# Altium footprint library KFHB9500.PcbLib: 11 footprints
Each footprint in its own frame and in the unit in brackets; x right, y up, seen from the top. Pads: shape width x height; smd on the part's side, far side on the other; paste and mask are expansions set on the pad; w line width, h text height; cw(c..) or ccw(c..) is an arc to the next point about the centre after c.
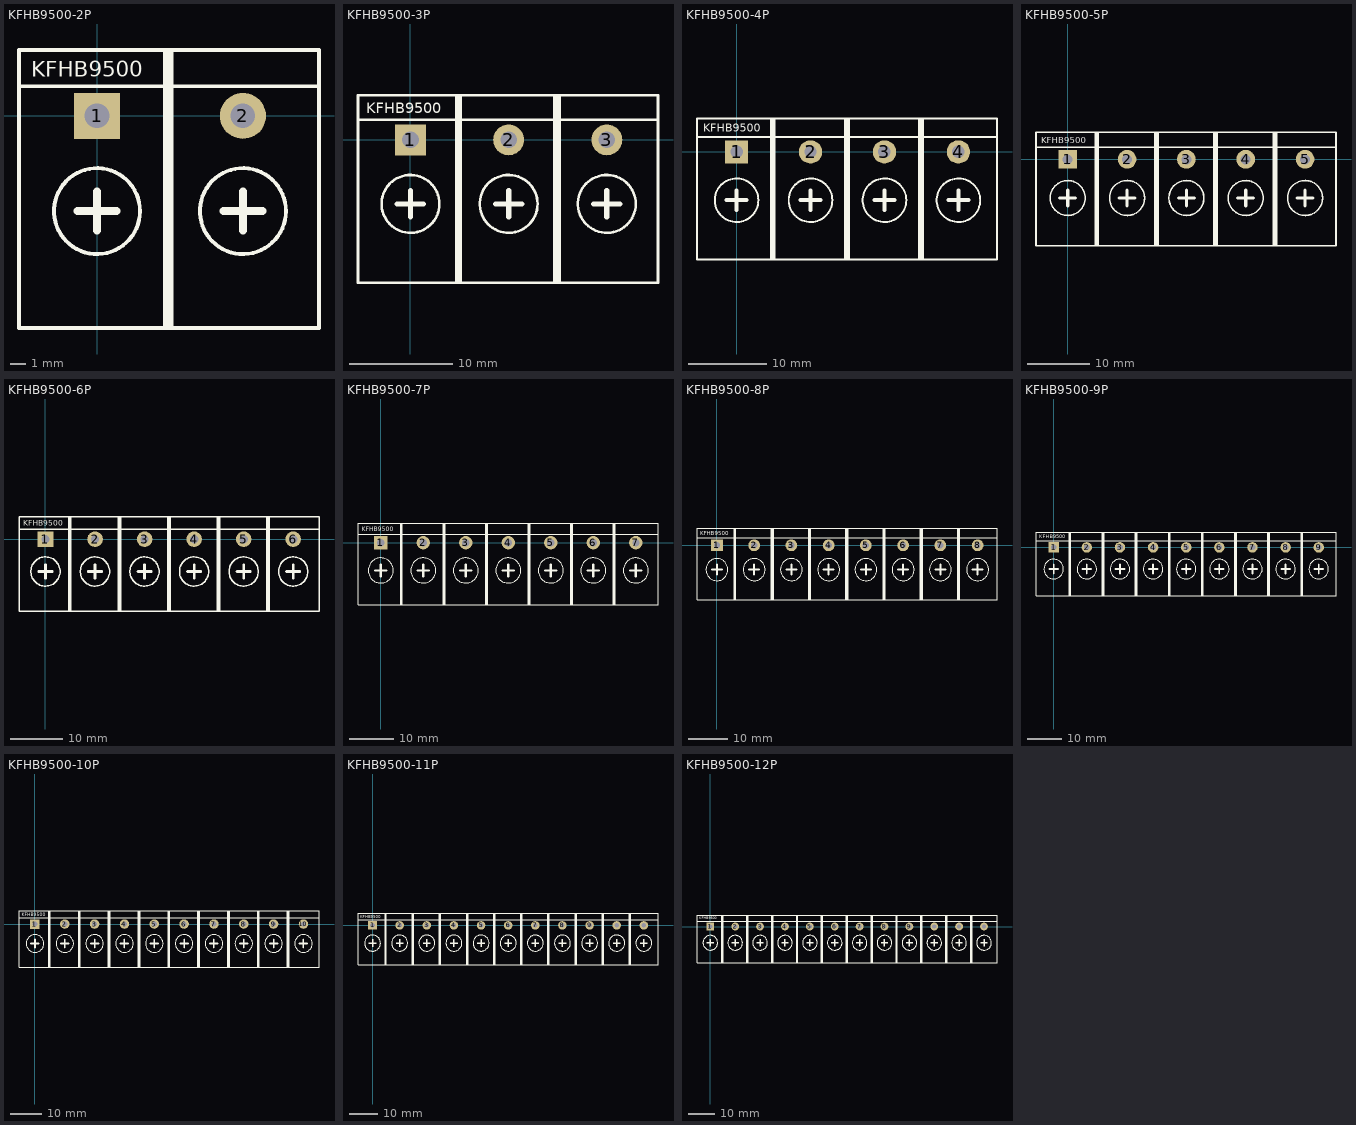
[diagram p0: the footprints below, top view; thin cyan lines are the x and y axes]

## KFHB9500-2P [mm]
pads (2):
  rect 3x3 hole 1.6: 1(0,0)
  round 3 hole 1.6: 2(9.5,0)
Top Overlay:
  circle w0.254: c9.5,-6.2 r2.8
  circle w0.254: c0,-6.2 r2.8
  lines w0.254: -5.08,1.928 4.826,1.928 ; 4.42,1.928 14.326,1.928 ; 4.674,-13.82 4.674,4.3 ; -5.08,-13.82 4.853,-13.82 4.853,4.3 -5.08,4.3 -5.08,-13.82 ; 4.42,-13.82 14.453,-13.82 14.453,4.3 4.42,4.3 4.42,-13.82
  lines w0.508: -1.27,-6.2 1.27,-6.2 ; 0,-7.47 0,-4.93 ; 8.23,-6.2 10.77,-6.2 ; 9.5,-7.47 9.5,-4.93
  text "KFHB9500" at -4.267,2.563 h1.02
3D body "KFHB9500.STEP": height 14.05, standoff -3.25, extent -5.207,-13.699 4.793,4.301
3D body "KFHB9500.STEP": height 14.05, standoff -3.25, extent 4.293,-13.699 14.293,4.301

## KFHB9500-3P [mm]
pads (3):
  rect 3x3 hole 1.6: 1(0,0)
  round 3 hole 1.6: 2(9.5,0) 3(19,0)
Top Overlay:
  circle w0.254: c0,-6.2 r2.8
  circle w0.254: c9.5,-6.2 r2.8
  circle w0.254: c19,-6.2 r2.8
  lines w0.254: -5.08,1.928 4.826,1.928 ; 4.42,1.928 14.326,1.928 ; 4.674,-13.82 4.674,4.3 ; 13.92,1.928 23.826,1.928 ; 14.174,-13.82 14.174,4.3 ; 14.353,-13.82 14.353,4.3 ; -5.08,-13.82 -5.08,4.3 4.853,4.3 4.853,-13.82 -5.08,-13.82 ; 4.42,-13.82 4.42,4.3 14.453,4.3 14.453,-13.82 4.42,-13.82 ; 13.92,-13.82 23.953,-13.82 23.953,4.3 13.92,4.3 13.92,-13.82
  lines w0.508: -1.27,-6.2 1.27,-6.2 ; 0,-7.47 0,-4.93 ; 8.23,-6.2 10.77,-6.2 ; 9.5,-7.47 9.5,-4.93 ; 17.73,-6.2 20.27,-6.2 ; 19,-7.47 19,-4.93
  text "KFHB9500" at -4.267,2.563 h1.02
3D body "KFHB9500.STEP": height 14.05, standoff -3.25, extent 13.793,-13.699 23.793,4.301
3D body "KFHB9500.STEP": height 14.05, standoff -3.25, extent -5.207,-13.699 4.793,4.301
3D body "KFHB9500.STEP": height 14.05, standoff -3.25, extent 4.293,-13.699 14.293,4.301

## KFHB9500-4P [mm]
pads (4):
  rect 3x3 hole 1.6: 1(0,0)
  round 3 hole 1.6: 2(9.5,0) 3(19,0) 4(28.5,0)
Top Overlay:
  circle w0.254: c28.5,-6.2 r2.8
  circle w0.254: c0,-6.2 r2.8
  circle w0.254: c9.5,-6.2 r2.8
  circle w0.254: c19,-6.2 r2.8
  lines w0.254: -5.08,1.928 4.826,1.928 ; 4.42,1.928 14.326,1.928 ; 4.674,-13.82 4.674,4.3 ; 13.92,1.928 23.826,1.928 ; 14.174,-13.82 14.174,4.3 ; 14.353,-13.82 14.353,4.3 ; 23.42,1.928 33.326,1.928 ; 23.674,-13.82 23.674,4.3 ; 23.853,-13.82 23.853,4.3 ; 23.953,-13.82 23.953,4.3 ; 23.953,-13.82 23.953,4.3 ; 23.953,-13.82 13.92,-13.82 13.92,4.3 23.953,4.3 ; -5.08,-13.82 -5.08,4.3 4.853,4.3 4.853,-13.82 -5.08,-13.82 ; 4.42,-13.82 4.42,4.3 14.453,4.3 14.453,-13.82 4.42,-13.82 ; 23.42,-13.82 23.42,4.3 33.453,4.3 33.453,-13.82 23.42,-13.82
  lines w0.508: -1.27,-6.2 1.27,-6.2 ; 0,-7.47 0,-4.93 ; 8.23,-6.2 10.77,-6.2 ; 9.5,-7.47 9.5,-4.93 ; 17.73,-6.2 20.27,-6.2 ; 19,-7.47 19,-4.93 ; 27.23,-6.2 29.77,-6.2 ; 28.5,-7.47 28.5,-4.93
  text "KFHB9500" at -4.267,2.563 h1.02
3D body "KFHB9500.STEP": height 14.05, standoff -3.25, extent 13.793,-13.699 23.793,4.301
3D body "KFHB9500.STEP": height 14.05, standoff -3.25, extent -5.207,-13.699 4.793,4.301
3D body "KFHB9500.STEP": height 14.05, standoff -3.25, extent 4.293,-13.699 14.293,4.301
3D body "KFHB9500.STEP": height 14.05, standoff -3.25, extent 23.293,-13.699 33.293,4.301

## KFHB9500-5P [mm]
pads (5):
  rect 3x3 hole 1.6: 1(0,0)
  round 3 hole 1.6: 2(9.5,0) 3(19,0) 4(28.5,0) 5(38,0)
Top Overlay:
  circle w0.254: c38,-6.2 r2.8
  circle w0.254: c28.5,-6.2 r2.8
  circle w0.254: c0,-6.2 r2.8
  circle w0.254: c9.5,-6.2 r2.8
  circle w0.254: c19,-6.2 r2.8
  lines w0.254: -5.08,1.928 4.826,1.928 ; 4.42,1.928 14.326,1.928 ; 4.674,-13.82 4.674,4.3 ; 13.92,1.928 23.826,1.928 ; 14.174,-13.82 14.174,4.3 ; 14.353,-13.82 14.353,4.3 ; 23.42,1.928 33.326,1.928 ; 23.674,-13.82 23.674,4.3 ; 23.853,-13.82 23.853,4.3 ; 32.92,1.928 42.826,1.928 ; 33.174,-13.82 33.174,4.3 ; 33.353,-13.82 33.353,4.3 ; 23.953,-13.82 23.953,4.3 ; 23.953,-13.82 23.953,4.3 ; 23.953,-13.82 13.92,-13.82 13.92,4.3 23.953,4.3 ; 33.453,-13.82 33.453,4.3 ; 33.453,-13.82 33.453,4.3 ; 33.453,-13.82 23.42,-13.82 23.42,4.3 33.453,4.3 ; 33.453,-13.82 33.453,4.3 ; -5.08,-13.82 -5.08,4.3 4.853,4.3 4.853,-13.82 -5.08,-13.82 ; 4.42,-13.82 4.42,4.3 14.453,4.3 14.453,-13.82 4.42,-13.82 ; 32.92,-13.82 42.953,-13.82 42.953,4.3 32.92,4.3 32.92,-13.82
  lines w0.508: -1.27,-6.2 1.27,-6.2 ; 0,-7.47 0,-4.93 ; 8.23,-6.2 10.77,-6.2 ; 9.5,-7.47 9.5,-4.93 ; 17.73,-6.2 20.27,-6.2 ; 19,-7.47 19,-4.93 ; 27.23,-6.2 29.77,-6.2 ; 28.5,-7.47 28.5,-4.93 ; 36.73,-6.2 39.27,-6.2 ; 38,-7.47 38,-4.93
  text "KFHB9500" at -4.267,2.563 h1.02
3D body "KFHB9500.STEP": height 14.05, standoff -3.25, extent 13.793,-13.699 23.793,4.301
3D body "KFHB9500.STEP": height 14.05, standoff -3.25, extent -5.207,-13.699 4.793,4.301
3D body "KFHB9500.STEP": height 14.05, standoff -3.25, extent 4.293,-13.699 14.293,4.301
3D body "KFHB9500.STEP": height 14.05, standoff -3.25, extent 23.293,-13.699 33.293,4.301
3D body "KFHB9500.STEP": height 14.05, standoff -3.25, extent 32.793,-13.699 42.793,4.301

## KFHB9500-6P [mm]
pads (6):
  rect 3x3 hole 1.6: 1(0,0)
  round 3 hole 1.6: 2(9.5,0) 3(19,0) 4(28.5,0) 5(38,0) 6(47.5,0)
Top Overlay:
  circle w0.254: c38,-6.2 r2.8
  circle w0.254: c28.5,-6.2 r2.8
  circle w0.254: c0,-6.2 r2.8
  circle w0.254: c9.5,-6.2 r2.8
  circle w0.254: c19,-6.2 r2.8
  circle w0.254: c47.5,-6.2 r2.8
  lines w0.254: -5.08,1.928 4.826,1.928 ; 4.42,1.928 14.326,1.928 ; 4.674,-13.82 4.674,4.3 ; 13.92,1.928 23.826,1.928 ; 14.174,-13.82 14.174,4.3 ; 14.353,-13.82 14.353,4.3 ; 23.42,1.928 33.326,1.928 ; 23.674,-13.82 23.674,4.3 ; 23.853,-13.82 23.853,4.3 ; 32.92,1.928 42.826,1.928 ; 33.174,-13.82 33.174,4.3 ; 33.353,-13.82 33.353,4.3 ; 42.42,1.928 52.326,1.928 ; 42.674,-13.82 42.674,4.3 ; 42.853,-13.82 42.853,4.3 ; 23.953,-13.82 23.953,4.3 ; 23.953,-13.82 23.953,4.3 ; 23.953,-13.82 13.92,-13.82 13.92,4.3 23.953,4.3 ; 33.453,-13.82 33.453,4.3 ; 33.453,-13.82 33.453,4.3 ; 33.453,-13.82 23.42,-13.82 23.42,4.3 33.453,4.3 ; 33.453,-13.82 33.453,4.3 ; 42.953,-13.82 42.953,4.3 ; 42.953,-13.82 32.92,-13.82 32.92,4.3 42.953,4.3 ; 42.953,-13.82 42.953,4.3 ; 42.953,-13.82 42.953,4.3 ; 42.953,-13.82 42.953,4.3 ; -5.08,-13.82 -5.08,4.3 4.853,4.3 4.853,-13.82 -5.08,-13.82 ; 4.42,-13.82 4.42,4.3 14.453,4.3 14.453,-13.82 4.42,-13.82 ; 42.42,-13.82 42.42,4.3 52.453,4.3 52.453,-13.82 42.42,-13.82
  lines w0.508: -1.27,-6.2 1.27,-6.2 ; 0,-7.47 0,-4.93 ; 8.23,-6.2 10.77,-6.2 ; 9.5,-7.47 9.5,-4.93 ; 17.73,-6.2 20.27,-6.2 ; 19,-7.47 19,-4.93 ; 27.23,-6.2 29.77,-6.2 ; 28.5,-7.47 28.5,-4.93 ; 36.73,-6.2 39.27,-6.2 ; 38,-7.47 38,-4.93 ; 46.23,-6.2 48.77,-6.2 ; 47.5,-7.47 47.5,-4.93
  text "KFHB9500" at -4.267,2.563 h1.02
3D body "KFHB9500.STEP": height 14.05, standoff -3.25, extent 32.793,-13.699 42.793,4.301
3D body "KFHB9500.STEP": height 14.05, standoff -3.25, extent 23.293,-13.699 33.293,4.301
3D body "KFHB9500.STEP": height 14.05, standoff -3.25, extent 42.293,-13.699 52.293,4.301
3D body "KFHB9500.STEP": height 14.05, standoff -3.25, extent 4.293,-13.699 14.293,4.301
3D body "KFHB9500.STEP": height 14.05, standoff -3.25, extent -5.207,-13.699 4.793,4.301
3D body "KFHB9500.STEP": height 14.05, standoff -3.25, extent 13.793,-13.699 23.793,4.301

## KFHB9500-7P [mm]
pads (7):
  rect 3x3 hole 1.6: 1(0,0)
  round 3 hole 1.6: 2(9.5,0) 3(19,0) 4(28.5,0) 5(38,0) 6(47.5,0) 7(57,0)
Top Overlay:
  circle w0.254: c57,-6.2 r2.8
  circle w0.254: c38,-6.2 r2.8
  circle w0.254: c28.5,-6.2 r2.8
  circle w0.254: c0,-6.2 r2.8
  circle w0.254: c9.5,-6.2 r2.8
  circle w0.254: c19,-6.2 r2.8
  circle w0.254: c47.5,-6.2 r2.8
  lines w0.254: -5.08,1.928 4.826,1.928 ; 4.42,1.928 14.326,1.928 ; 4.674,-13.82 4.674,4.3 ; 13.92,1.928 23.826,1.928 ; 14.174,-13.82 14.174,4.3 ; 14.353,-13.82 14.353,4.3 ; 23.42,1.928 33.326,1.928 ; 23.674,-13.82 23.674,4.3 ; 23.853,-13.82 23.853,4.3 ; 32.92,1.928 42.826,1.928 ; 33.174,-13.82 33.174,4.3 ; 33.353,-13.82 33.353,4.3 ; 42.42,1.928 52.326,1.928 ; 42.674,-13.82 42.674,4.3 ; 42.853,-13.82 42.853,4.3 ; 51.92,1.928 61.826,1.928 ; 52.174,-13.82 52.174,4.3 ; 52.353,-13.82 52.353,4.3 ; 23.953,-13.82 23.953,4.3 ; 23.953,-13.82 23.953,4.3 ; 23.953,-13.82 13.92,-13.82 13.92,4.3 23.953,4.3 ; 33.453,-13.82 33.453,4.3 ; 33.453,-13.82 33.453,4.3 ; 33.453,-13.82 23.42,-13.82 23.42,4.3 33.453,4.3 ; 33.453,-13.82 33.453,4.3 ; 42.953,-13.82 42.953,4.3 ; 42.953,-13.82 32.92,-13.82 32.92,4.3 42.953,4.3 ; 42.953,-13.82 42.953,4.3 ; 42.953,-13.82 42.953,4.3 ; 42.953,-13.82 42.953,4.3 ; 52.453,-13.82 52.453,4.3 ; 52.453,-13.82 52.453,4.3 ; 52.453,-13.82 52.453,4.3 ; 52.453,-13.82 52.453,4.3 ; 52.453,-13.82 42.42,-13.82 42.42,4.3 52.453,4.3 ; 52.453,-13.82 52.453,4.3 ; -5.08,-13.82 -5.08,4.3 4.853,4.3 4.853,-13.82 -5.08,-13.82 ; 4.42,-13.82 4.42,4.3 14.453,4.3 14.453,-13.82 4.42,-13.82 ; 51.92,-13.82 61.953,-13.82 61.953,4.3 51.92,4.3 51.92,-13.82
  lines w0.508: -1.27,-6.2 1.27,-6.2 ; 0,-7.47 0,-4.93 ; 8.23,-6.2 10.77,-6.2 ; 9.5,-7.47 9.5,-4.93 ; 17.73,-6.2 20.27,-6.2 ; 19,-7.47 19,-4.93 ; 27.23,-6.2 29.77,-6.2 ; 28.5,-7.47 28.5,-4.93 ; 36.73,-6.2 39.27,-6.2 ; 38,-7.47 38,-4.93 ; 46.23,-6.2 48.77,-6.2 ; 47.5,-7.47 47.5,-4.93 ; 55.73,-6.2 58.27,-6.2 ; 57,-7.47 57,-4.93
  text "KFHB9500" at -4.267,2.563 h1.02
3D body "KFHB9500.STEP": height 14.05, standoff -3.25, extent 13.793,-13.699 23.793,4.301
3D body "KFHB9500.STEP": height 14.05, standoff -3.25, extent -5.207,-13.699 4.793,4.301
3D body "KFHB9500.STEP": height 14.05, standoff -3.25, extent 4.293,-13.699 14.293,4.301
3D body "KFHB9500.STEP": height 14.05, standoff -3.25, extent 42.293,-13.699 52.293,4.301
3D body "KFHB9500.STEP": height 14.05, standoff -3.25, extent 23.293,-13.699 33.293,4.301
3D body "KFHB9500.STEP": height 14.05, standoff -3.25, extent 32.793,-13.699 42.793,4.301
3D body "KFHB9500.STEP": height 14.05, standoff -3.25, extent 51.793,-13.699 61.793,4.301

## KFHB9500-8P [mm]
pads (8):
  rect 3x3 hole 1.6: 1(0,0)
  round 3 hole 1.6: 2(9.5,0) 3(19,0) 4(28.5,0) 5(38,0) 6(47.5,0) 7(57,0) 8(66.5,0)
Top Overlay:
  circle w0.254: c66.5,-6.2 r2.8
  circle w0.254: c47.5,-6.2 r2.8
  circle w0.254: c19,-6.2 r2.8
  circle w0.254: c9.5,-6.2 r2.8
  circle w0.254: c0,-6.2 r2.8
  circle w0.254: c28.5,-6.2 r2.8
  circle w0.254: c38,-6.2 r2.8
  circle w0.254: c57,-6.2 r2.8
  lines w0.254: -5.08,1.928 4.826,1.928 ; 4.42,1.928 14.326,1.928 ; 4.674,-13.82 4.674,4.3 ; 13.92,1.928 23.826,1.928 ; 14.174,-13.82 14.174,4.3 ; 14.353,-13.82 14.353,4.3 ; 23.42,1.928 33.326,1.928 ; 23.674,-13.82 23.674,4.3 ; 23.853,-13.82 23.853,4.3 ; 32.92,1.928 42.826,1.928 ; 33.174,-13.82 33.174,4.3 ; 33.353,-13.82 33.353,4.3 ; 42.42,1.928 52.326,1.928 ; 42.674,-13.82 42.674,4.3 ; 42.853,-13.82 42.853,4.3 ; 51.92,1.928 61.826,1.928 ; 52.174,-13.82 52.174,4.3 ; 52.353,-13.82 52.353,4.3 ; 61.42,1.928 71.326,1.928 ; 61.674,-13.82 61.674,4.3 ; 61.853,-13.82 61.853,4.3 ; 23.953,-13.82 13.92,-13.82 13.92,4.3 23.953,4.3 ; 23.953,-13.82 23.953,4.3 ; 23.953,-13.82 23.953,4.3 ; 33.453,-13.82 33.453,4.3 ; 33.453,-13.82 23.42,-13.82 23.42,4.3 33.453,4.3 ; 33.453,-13.82 33.453,4.3 ; 33.453,-13.82 33.453,4.3 ; 42.953,-13.82 42.953,4.3 ; 42.953,-13.82 42.953,4.3 ; 42.953,-13.82 42.953,4.3 ; 42.953,-13.82 32.92,-13.82 32.92,4.3 42.953,4.3 ; 42.953,-13.82 42.953,4.3 ; 52.453,-13.82 52.453,4.3 ; 52.453,-13.82 42.42,-13.82 42.42,4.3 52.453,4.3 ; 52.453,-13.82 52.453,4.3 ; 52.453,-13.82 52.453,4.3 ; 52.453,-13.82 52.453,4.3 ; 52.453,-13.82 52.453,4.3 ; 61.953,-13.82 61.953,4.3 ; 61.953,-13.82 61.953,4.3 ; 61.953,-13.82 61.953,4.3 ; 61.953,-13.82 61.953,4.3 ; 61.953,-13.82 61.953,4.3 ; 61.953,-13.82 51.92,-13.82 51.92,4.3 61.953,4.3 ; 61.953,-13.82 61.953,4.3 ; -5.08,-13.82 4.853,-13.82 4.853,4.3 -5.08,4.3 -5.08,-13.82 ; 4.42,-13.82 14.453,-13.82 14.453,4.3 4.42,4.3 4.42,-13.82 ; 61.42,-13.82 71.453,-13.82 71.453,4.3 61.42,4.3 61.42,-13.82
  lines w0.508: -1.27,-6.2 1.27,-6.2 ; 0,-7.47 0,-4.93 ; 8.23,-6.2 10.77,-6.2 ; 9.5,-7.47 9.5,-4.93 ; 17.73,-6.2 20.27,-6.2 ; 19,-7.47 19,-4.93 ; 27.23,-6.2 29.77,-6.2 ; 28.5,-7.47 28.5,-4.93 ; 36.73,-6.2 39.27,-6.2 ; 38,-7.47 38,-4.93 ; 46.23,-6.2 48.77,-6.2 ; 47.5,-7.47 47.5,-4.93 ; 55.73,-6.2 58.27,-6.2 ; 57,-7.47 57,-4.93 ; 65.23,-6.2 67.77,-6.2 ; 66.5,-7.47 66.5,-4.93
  text "KFHB9500" at -4.267,2.563 h1.02
3D body "KFHB9500.STEP": height 14.05, standoff -3.25, extent 13.793,-13.699 23.793,4.301
3D body "KFHB9500.STEP": height 14.05, standoff -3.25, extent -5.207,-13.699 4.793,4.301
3D body "KFHB9500.STEP": height 14.05, standoff -3.25, extent 4.293,-13.699 14.293,4.301
3D body "KFHB9500.STEP": height 14.05, standoff -3.25, extent 42.293,-13.699 52.293,4.301
3D body "KFHB9500.STEP": height 14.05, standoff -3.25, extent 23.293,-13.699 33.293,4.301
3D body "KFHB9500.STEP": height 14.05, standoff -3.25, extent 32.793,-13.699 42.793,4.301
3D body "KFHB9500.STEP": height 14.05, standoff -3.25, extent 51.793,-13.699 61.793,4.301
3D body "KFHB9500.STEP": height 14.05, standoff -3.25, extent 61.293,-13.699 71.293,4.301

## KFHB9500-9P [mm]
pads (9):
  rect 3x3 hole 1.6: 1(0,0)
  round 3 hole 1.6: 2(9.5,0) 3(19,0) 4(28.5,0) 5(38,0) 6(47.5,0) 7(57,0) 8(66.5,0) 9(76,0)
Top Overlay:
  circle w0.254: c76,-6.2 r2.8
  circle w0.254: c57,-6.2 r2.8
  circle w0.254: c38,-6.2 r2.8
  circle w0.254: c28.5,-6.2 r2.8
  circle w0.254: c0,-6.2 r2.8
  circle w0.254: c9.5,-6.2 r2.8
  circle w0.254: c19,-6.2 r2.8
  circle w0.254: c47.5,-6.2 r2.8
  circle w0.254: c66.5,-6.2 r2.8
  lines w0.254: -5.08,1.928 4.826,1.928 ; 4.42,1.928 14.326,1.928 ; 4.674,-13.82 4.674,4.3 ; 13.92,1.928 23.826,1.928 ; 14.174,-13.82 14.174,4.3 ; 14.353,-13.82 14.353,4.3 ; 23.42,1.928 33.326,1.928 ; 23.674,-13.82 23.674,4.3 ; 23.853,-13.82 23.853,4.3 ; 32.92,1.928 42.826,1.928 ; 33.174,-13.82 33.174,4.3 ; 33.353,-13.82 33.353,4.3 ; 42.42,1.928 52.326,1.928 ; 42.674,-13.82 42.674,4.3 ; 42.853,-13.82 42.853,4.3 ; 51.92,1.928 61.826,1.928 ; 52.174,-13.82 52.174,4.3 ; 52.353,-13.82 52.353,4.3 ; 61.42,1.928 71.326,1.928 ; 61.674,-13.82 61.674,4.3 ; 61.853,-13.82 61.853,4.3 ; 70.92,1.928 80.826,1.928 ; 71.174,-13.82 71.174,4.3 ; 71.353,-13.82 71.353,4.3 ; 23.953,-13.82 23.953,4.3 ; 23.953,-13.82 23.953,4.3 ; 23.953,-13.82 13.92,-13.82 13.92,4.3 23.953,4.3 ; 33.453,-13.82 33.453,4.3 ; 33.453,-13.82 33.453,4.3 ; 33.453,-13.82 23.42,-13.82 23.42,4.3 33.453,4.3 ; 33.453,-13.82 33.453,4.3 ; 42.953,-13.82 42.953,4.3 ; 42.953,-13.82 32.92,-13.82 32.92,4.3 42.953,4.3 ; 42.953,-13.82 42.953,4.3 ; 42.953,-13.82 42.953,4.3 ; 42.953,-13.82 42.953,4.3 ; 52.453,-13.82 52.453,4.3 ; 52.453,-13.82 52.453,4.3 ; 52.453,-13.82 52.453,4.3 ; 52.453,-13.82 52.453,4.3 ; 52.453,-13.82 42.42,-13.82 42.42,4.3 52.453,4.3 ; 52.453,-13.82 52.453,4.3 ; 61.953,-13.82 61.953,4.3 ; 61.953,-13.82 51.92,-13.82 51.92,4.3 61.953,4.3 ; 61.953,-13.82 61.953,4.3 ; 61.953,-13.82 61.953,4.3 ; 61.953,-13.82 61.953,4.3 ; 61.953,-13.82 61.953,4.3 ; 61.953,-13.82 61.953,4.3 ; 71.453,-13.82 71.453,4.3 ; 71.453,-13.82 71.453,4.3 ; 71.453,-13.82 71.453,4.3 ; 71.453,-13.82 71.453,4.3 ; 71.453,-13.82 71.453,4.3 ; 71.453,-13.82 71.453,4.3 ; 71.453,-13.82 61.42,-13.82 61.42,4.3 71.453,4.3 ; 71.453,-13.82 71.453,4.3 ; -5.08,-13.82 -5.08,4.3 4.853,4.3 4.853,-13.82 -5.08,-13.82 ; 4.42,-13.82 4.42,4.3 14.453,4.3 14.453,-13.82 4.42,-13.82 ; 70.92,-13.82 80.953,-13.82 80.953,4.3 70.92,4.3 70.92,-13.82
  lines w0.508: -1.27,-6.2 1.27,-6.2 ; 0,-7.47 0,-4.93 ; 8.23,-6.2 10.77,-6.2 ; 9.5,-7.47 9.5,-4.93 ; 17.73,-6.2 20.27,-6.2 ; 19,-7.47 19,-4.93 ; 27.23,-6.2 29.77,-6.2 ; 28.5,-7.47 28.5,-4.93 ; 36.73,-6.2 39.27,-6.2 ; 38,-7.47 38,-4.93 ; 46.23,-6.2 48.77,-6.2 ; 47.5,-7.47 47.5,-4.93 ; 55.73,-6.2 58.27,-6.2 ; 57,-7.47 57,-4.93 ; 65.23,-6.2 67.77,-6.2 ; 66.5,-7.47 66.5,-4.93 ; 74.73,-6.2 77.27,-6.2 ; 76,-7.47 76,-4.93
  text "KFHB9500" at -4.164,2.563 h1.02
Mechanical 15:
  circle w0.05: c38,-6.2 r0.35
  lines w0.05: 37.5,-6.2 38.5,-6.2 ; 38,-6.7 38,-5.7
3D body "KFHB9500.STEP": height 14.05, standoff -3.25, extent 61.293,-13.699 71.293,4.301
3D body "KFHB9500.STEP": height 14.05, standoff -3.25, extent 51.793,-13.699 61.793,4.301
3D body "KFHB9500.STEP": height 14.05, standoff -3.25, extent 70.793,-13.699 80.793,4.301
3D body "KFHB9500.STEP": height 14.05, standoff -3.25, extent 32.793,-13.699 42.793,4.301
3D body "KFHB9500.STEP": height 14.05, standoff -3.25, extent 23.293,-13.699 33.293,4.301
3D body "KFHB9500.STEP": height 14.05, standoff -3.25, extent 42.293,-13.699 52.293,4.301
3D body "KFHB9500.STEP": height 14.05, standoff -3.25, extent 4.293,-13.699 14.293,4.301
3D body "KFHB9500.STEP": height 14.05, standoff -3.25, extent -5.207,-13.699 4.793,4.301
3D body "KFHB9500.STEP": height 14.05, standoff -3.25, extent 13.793,-13.699 23.793,4.301

## KFHB9500-10P [mm]
pads (10):
  rect 3x3 hole 1.6: 1(0,0)
  round 3 hole 1.6: 2(9.5,0) 3(19,0) 4(28.5,0) 5(38,0) 6(47.5,0) 7(57,0) 8(66.5,0) 9(76,0) 10(85.5,0)
Top Overlay:
  circle w0.254: c66.5,-6.2 r2.8
  circle w0.254: c47.5,-6.2 r2.8
  circle w0.254: c19,-6.2 r2.8
  circle w0.254: c9.5,-6.2 r2.8
  circle w0.254: c0,-6.2 r2.8
  circle w0.254: c28.5,-6.2 r2.8
  circle w0.254: c38,-6.2 r2.8
  circle w0.254: c57,-6.2 r2.8
  circle w0.254: c76,-6.2 r2.8
  circle w0.254: c85.5,-6.2 r2.8
  lines w0.254: -5.08,1.928 4.826,1.928 ; 4.42,1.928 14.326,1.928 ; 4.674,-13.82 4.674,4.3 ; 13.92,1.928 23.826,1.928 ; 14.174,-13.82 14.174,4.3 ; 14.353,-13.82 14.353,4.3 ; 23.42,1.928 33.326,1.928 ; 23.674,-13.82 23.674,4.3 ; 23.853,-13.82 23.853,4.3 ; 32.92,1.928 42.826,1.928 ; 33.174,-13.82 33.174,4.3 ; 33.353,-13.82 33.353,4.3 ; 42.42,1.928 52.326,1.928 ; 42.674,-13.82 42.674,4.3 ; 42.853,-13.82 42.853,4.3 ; 51.92,1.928 61.826,1.928 ; 52.174,-13.82 52.174,4.3 ; 52.353,-13.82 52.353,4.3 ; 61.42,1.928 71.326,1.928 ; 61.674,-13.82 61.674,4.3 ; 61.853,-13.82 61.853,4.3 ; 70.92,1.928 80.826,1.928 ; 71.174,-13.82 71.174,4.3 ; 71.353,-13.82 71.353,4.3 ; 80.42,1.928 90.326,1.928 ; 80.674,-13.82 80.674,4.3 ; 80.853,-13.82 80.853,4.3 ; 23.953,-13.82 13.92,-13.82 13.92,4.3 23.953,4.3 ; 23.953,-13.82 23.953,4.3 ; 23.953,-13.82 23.953,4.3 ; 33.453,-13.82 33.453,4.3 ; 33.453,-13.82 23.42,-13.82 23.42,4.3 33.453,4.3 ; 33.453,-13.82 33.453,4.3 ; 33.453,-13.82 33.453,4.3 ; 42.953,-13.82 42.953,4.3 ; 42.953,-13.82 42.953,4.3 ; 42.953,-13.82 42.953,4.3 ; 42.953,-13.82 32.92,-13.82 32.92,4.3 42.953,4.3 ; 42.953,-13.82 42.953,4.3 ; 52.453,-13.82 52.453,4.3 ; 52.453,-13.82 42.42,-13.82 42.42,4.3 52.453,4.3 ; 52.453,-13.82 52.453,4.3 ; 52.453,-13.82 52.453,4.3 ; 52.453,-13.82 52.453,4.3 ; 52.453,-13.82 52.453,4.3 ; 61.953,-13.82 61.953,4.3 ; 61.953,-13.82 61.953,4.3 ; 61.953,-13.82 61.953,4.3 ; 61.953,-13.82 61.953,4.3 ; 61.953,-13.82 61.953,4.3 ; 61.953,-13.82 51.92,-13.82 51.92,4.3 61.953,4.3 ; 61.953,-13.82 61.953,4.3 ; 71.453,-13.82 71.453,4.3 ; 71.453,-13.82 61.42,-13.82 61.42,4.3 71.453,4.3 ; 71.453,-13.82 71.453,4.3 ; 71.453,-13.82 71.453,4.3 ; 71.453,-13.82 71.453,4.3 ; 71.453,-13.82 71.453,4.3 ; 71.453,-13.82 71.453,4.3 ; 71.453,-13.82 71.453,4.3 ; 80.953,-13.82 70.92,-13.82 70.92,4.3 80.953,4.3 ; 80.953,-13.82 80.953,4.3 ; 80.953,-13.82 80.953,4.3 ; 80.953,-13.82 80.953,4.3 ; 80.953,-13.82 80.953,4.3 ; 80.953,-13.82 80.953,4.3 ; 80.953,-13.82 80.953,4.3 ; 80.953,-13.82 80.953,4.3 ; 80.953,-13.82 80.953,4.3 ; -5.08,-13.82 4.853,-13.82 4.853,4.3 -5.08,4.3 -5.08,-13.82 ; 4.42,-13.82 14.453,-13.82 14.453,4.3 4.42,4.3 4.42,-13.82 ; 80.42,-13.82 90.453,-13.82 90.453,4.3 80.42,4.3 80.42,-13.82
  lines w0.508: -1.27,-6.2 1.27,-6.2 ; 0,-7.47 0,-4.93 ; 8.23,-6.2 10.77,-6.2 ; 9.5,-7.47 9.5,-4.93 ; 17.73,-6.2 20.27,-6.2 ; 19,-7.47 19,-4.93 ; 27.23,-6.2 29.77,-6.2 ; 28.5,-7.47 28.5,-4.93 ; 36.73,-6.2 39.27,-6.2 ; 38,-7.47 38,-4.93 ; 46.23,-6.2 48.77,-6.2 ; 47.5,-7.47 47.5,-4.93 ; 55.73,-6.2 58.27,-6.2 ; 57,-7.47 57,-4.93 ; 65.23,-6.2 67.77,-6.2 ; 66.5,-7.47 66.5,-4.93 ; 74.73,-6.2 77.27,-6.2 ; 76,-7.47 76,-4.93 ; 84.23,-6.2 86.77,-6.2 ; 85.5,-7.47 85.5,-4.93
  text "KFHB9500" at -4.267,2.563 h1.02
3D body "KFHB9500.STEP": height 14.05, standoff -3.25, extent 13.793,-13.699 23.793,4.301
3D body "KFHB9500.STEP": height 14.05, standoff -3.25, extent -5.207,-13.699 4.793,4.301
3D body "KFHB9500.STEP": height 14.05, standoff -3.25, extent 4.293,-13.699 14.293,4.301
3D body "KFHB9500.STEP": height 14.05, standoff -3.25, extent 42.293,-13.699 52.293,4.301
3D body "KFHB9500.STEP": height 14.05, standoff -3.25, extent 23.293,-13.699 33.293,4.301
3D body "KFHB9500.STEP": height 14.05, standoff -3.25, extent 32.793,-13.699 42.793,4.301
3D body "KFHB9500.STEP": height 14.05, standoff -3.25, extent 70.793,-13.699 80.793,4.301
3D body "KFHB9500.STEP": height 14.05, standoff -3.25, extent 51.793,-13.699 61.793,4.301
3D body "KFHB9500.STEP": height 14.05, standoff -3.25, extent 61.293,-13.699 71.293,4.301
3D body "KFHB9500.STEP": height 14.05, standoff -3.25, extent 80.293,-13.699 90.293,4.301

## KFHB9500-11P [mm]
pads (11):
  rect 3x3 hole 1.6: 1(0,0)
  round 3 hole 1.6: 2(9.5,0) 3(19,0) 4(28.5,0) 5(38,0) 6(47.5,0) 7(57,0) 8(66.5,0) 9(76,0) 10(85.5,0) 11(95,0)
Top Overlay:
  circle w0.254: c95,-6.2 r2.8
  circle w0.254: c66.5,-6.2 r2.8
  circle w0.254: c47.5,-6.2 r2.8
  circle w0.254: c19,-6.2 r2.8
  circle w0.254: c9.5,-6.2 r2.8
  circle w0.254: c0,-6.2 r2.8
  circle w0.254: c28.5,-6.2 r2.8
  circle w0.254: c38,-6.2 r2.8
  circle w0.254: c57,-6.2 r2.8
  circle w0.254: c76,-6.2 r2.8
  circle w0.254: c85.5,-6.2 r2.8
  lines w0.254: -5.08,1.928 4.826,1.928 ; 4.42,1.928 14.326,1.928 ; 4.674,-13.82 4.674,4.3 ; 13.92,1.928 23.826,1.928 ; 14.174,-13.82 14.174,4.3 ; 14.353,-13.82 14.353,4.3 ; 23.42,1.928 33.326,1.928 ; 23.674,-13.82 23.674,4.3 ; 23.853,-13.82 23.853,4.3 ; 32.92,1.928 42.826,1.928 ; 33.174,-13.82 33.174,4.3 ; 33.353,-13.82 33.353,4.3 ; 42.42,1.928 52.326,1.928 ; 42.674,-13.82 42.674,4.3 ; 42.853,-13.82 42.853,4.3 ; 51.92,1.928 61.826,1.928 ; 52.174,-13.82 52.174,4.3 ; 52.353,-13.82 52.353,4.3 ; 61.42,1.928 71.326,1.928 ; 61.674,-13.82 61.674,4.3 ; 61.853,-13.82 61.853,4.3 ; 70.92,1.928 80.826,1.928 ; 71.174,-13.82 71.174,4.3 ; 71.353,-13.82 71.353,4.3 ; 80.42,1.928 90.326,1.928 ; 80.674,-13.82 80.674,4.3 ; 80.853,-13.82 80.853,4.3 ; 89.92,1.928 99.826,1.928 ; 90.174,-13.82 90.174,4.3 ; 90.353,-13.82 90.353,4.3 ; 23.953,-13.82 13.92,-13.82 13.92,4.3 23.953,4.3 ; 23.953,-13.82 23.953,4.3 ; 23.953,-13.82 23.953,4.3 ; 33.453,-13.82 33.453,4.3 ; 33.453,-13.82 23.42,-13.82 23.42,4.3 33.453,4.3 ; 33.453,-13.82 33.453,4.3 ; 33.453,-13.82 33.453,4.3 ; 42.953,-13.82 42.953,4.3 ; 42.953,-13.82 42.953,4.3 ; 42.953,-13.82 42.953,4.3 ; 42.953,-13.82 32.92,-13.82 32.92,4.3 42.953,4.3 ; 42.953,-13.82 42.953,4.3 ; 52.453,-13.82 52.453,4.3 ; 52.453,-13.82 42.42,-13.82 42.42,4.3 52.453,4.3 ; 52.453,-13.82 52.453,4.3 ; 52.453,-13.82 52.453,4.3 ; 52.453,-13.82 52.453,4.3 ; 52.453,-13.82 52.453,4.3 ; 61.953,-13.82 61.953,4.3 ; 61.953,-13.82 61.953,4.3 ; 61.953,-13.82 61.953,4.3 ; 61.953,-13.82 61.953,4.3 ; 61.953,-13.82 61.953,4.3 ; 61.953,-13.82 51.92,-13.82 51.92,4.3 61.953,4.3 ; 61.953,-13.82 61.953,4.3 ; 71.453,-13.82 71.453,4.3 ; 71.453,-13.82 61.42,-13.82 61.42,4.3 71.453,4.3 ; 71.453,-13.82 71.453,4.3 ; 71.453,-13.82 71.453,4.3 ; 71.453,-13.82 71.453,4.3 ; 71.453,-13.82 71.453,4.3 ; 71.453,-13.82 71.453,4.3 ; 71.453,-13.82 71.453,4.3 ; 80.953,-13.82 70.92,-13.82 70.92,4.3 80.953,4.3 ; 80.953,-13.82 80.953,4.3 ; 80.953,-13.82 80.953,4.3 ; 80.953,-13.82 80.953,4.3 ; 80.953,-13.82 80.953,4.3 ; 80.953,-13.82 80.953,4.3 ; 80.953,-13.82 80.953,4.3 ; 80.953,-13.82 80.953,4.3 ; 80.953,-13.82 80.953,4.3 ; 90.453,-13.82 90.453,4.3 ; 90.453,-13.82 90.453,4.3 ; 90.453,-13.82 90.453,4.3 ; 90.453,-13.82 90.453,4.3 ; 90.453,-13.82 90.453,4.3 ; 90.453,-13.82 90.453,4.3 ; 90.453,-13.82 90.453,4.3 ; 90.453,-13.82 90.453,4.3 ; 90.453,-13.82 90.453,4.3 ; 90.453,-13.82 80.42,-13.82 80.42,4.3 90.453,4.3 ; -5.08,-13.82 4.853,-13.82 4.853,4.3 -5.08,4.3 -5.08,-13.82 ; 4.42,-13.82 14.453,-13.82 14.453,4.3 4.42,4.3 4.42,-13.82 ; 89.92,-13.82 89.92,4.3 99.953,4.3 99.953,-13.82 89.92,-13.82
  lines w0.508: -1.27,-6.2 1.27,-6.2 ; 0,-7.47 0,-4.93 ; 8.23,-6.2 10.77,-6.2 ; 9.5,-7.47 9.5,-4.93 ; 17.73,-6.2 20.27,-6.2 ; 19,-7.47 19,-4.93 ; 27.23,-6.2 29.77,-6.2 ; 28.5,-7.47 28.5,-4.93 ; 36.73,-6.2 39.27,-6.2 ; 38,-7.47 38,-4.93 ; 46.23,-6.2 48.77,-6.2 ; 47.5,-7.47 47.5,-4.93 ; 55.73,-6.2 58.27,-6.2 ; 57,-7.47 57,-4.93 ; 65.23,-6.2 67.77,-6.2 ; 66.5,-7.47 66.5,-4.93 ; 74.73,-6.2 77.27,-6.2 ; 76,-7.47 76,-4.93 ; 84.23,-6.2 86.77,-6.2 ; 85.5,-7.47 85.5,-4.93 ; 93.73,-6.2 96.27,-6.2 ; 95,-7.47 95,-4.93
  text "KFHB9500" at -4.267,2.563 h1.02
3D body "KFHB9500.STEP": height 14.05, standoff -3.25, extent 13.793,-13.699 23.793,4.301
3D body "KFHB9500.STEP": height 14.05, standoff -3.25, extent -5.207,-13.699 4.793,4.301
3D body "KFHB9500.STEP": height 14.05, standoff -3.25, extent 4.293,-13.699 14.293,4.301
3D body "KFHB9500.STEP": height 14.05, standoff -3.25, extent 42.293,-13.699 52.293,4.301
3D body "KFHB9500.STEP": height 14.05, standoff -3.25, extent 23.293,-13.699 33.293,4.301
3D body "KFHB9500.STEP": height 14.05, standoff -3.25, extent 32.793,-13.699 42.793,4.301
3D body "KFHB9500.STEP": height 14.05, standoff -3.25, extent 70.793,-13.699 80.793,4.301
3D body "KFHB9500.STEP": height 14.05, standoff -3.25, extent 51.793,-13.699 61.793,4.301
3D body "KFHB9500.STEP": height 14.05, standoff -3.25, extent 61.293,-13.699 71.293,4.301
3D body "KFHB9500.STEP": height 14.05, standoff -3.25, extent 80.293,-13.699 90.293,4.301
3D body "KFHB9500.STEP": height 14.05, standoff -3.25, extent 89.793,-13.699 99.793,4.301

## KFHB9500-12P [mm]
pads (12):
  rect 3x3 hole 1.6: 1(0,0)
  round 3 hole 1.6: 2(9.5,0) 3(19,0) 4(28.5,0) 5(38,0) 6(47.5,0) 7(57,0) 8(66.5,0) 9(76,0) 10(85.5,0) 11(95,0) 12(104.5,0)
Top Overlay:
  drawing of 162 lines, arcs and shapes, not listed
  text "KFHB9500" at -4.138,2.69 h1.02
3D body "KFHB9500.STEP": height 14.05, standoff -3.25, extent 13.793,-13.699 23.793,4.301
3D body "KFHB9500.STEP": height 14.05, standoff -3.25, extent -5.207,-13.699 4.793,4.301
3D body "KFHB9500.STEP": height 14.05, standoff -3.25, extent 4.293,-13.699 14.293,4.301
3D body "KFHB9500.STEP": height 14.05, standoff -3.25, extent 42.293,-13.699 52.293,4.301
3D body "KFHB9500.STEP": height 14.05, standoff -3.25, extent 23.293,-13.699 33.293,4.301
3D body "KFHB9500.STEP": height 14.05, standoff -3.25, extent 32.793,-13.699 42.793,4.301
3D body "KFHB9500.STEP": height 14.05, standoff -3.25, extent 70.793,-13.699 80.793,4.301
3D body "KFHB9500.STEP": height 14.05, standoff -3.25, extent 51.793,-13.699 61.793,4.301
3D body "KFHB9500.STEP": height 14.05, standoff -3.25, extent 61.293,-13.699 71.293,4.301
3D body "KFHB9500.STEP": height 14.05, standoff -3.25, extent 99.293,-13.699 109.293,4.301
3D body "KFHB9500.STEP": height 14.05, standoff -3.25, extent 80.293,-13.699 90.293,4.301
3D body "KFHB9500.STEP": height 14.05, standoff -3.25, extent 89.793,-13.699 99.793,4.301